# Altium footprint library KF接线端子.PcbLib: 153 footprints (part 9 of 10)
Each footprint in its own frame and in the unit in brackets; x right, y up, seen from the top. Pads: shape width x height; smd on the part's side, far side on the other; paste and mask are expansions set on the pad; w line width, h text height; cw(c..) or ccw(c..) is an arc to the next point about the centre after c.
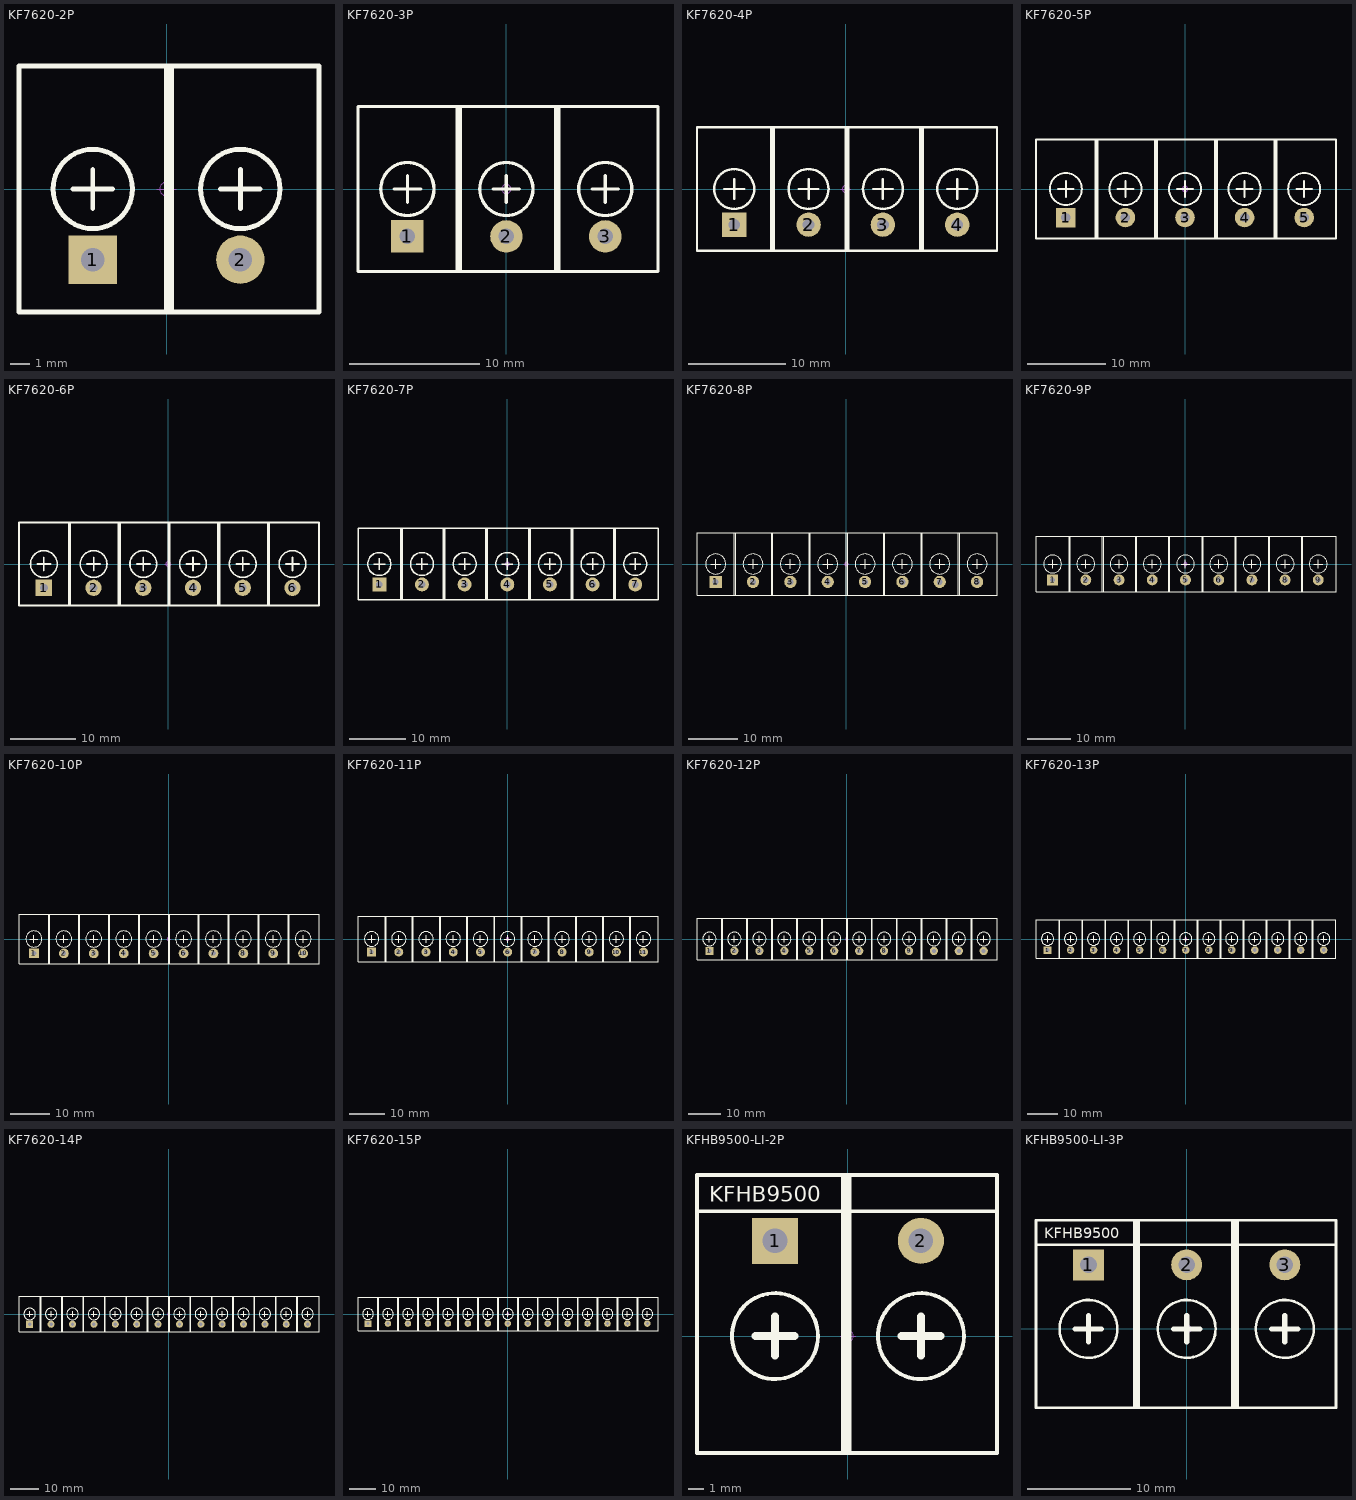
[diagram p8: the footprints below, top view; thin cyan lines are the x and y axes]

## KF7620-2P [mm] "15.2*12*12mm(长宽高)"
pads (2):
  rect 2.5x2.5 hole 1.2: 1(-3.81,-3.65)
  round 2.5 hole 1.2: 2(3.81,-3.65)
Top Overlay:
  circle w0.254: c-3.81,0 r2.048
  circle w0.254: c3.81,0 r2.048
  lines w0.254: -4.826,0 -2.794,0 ; -3.81,-1.016 -3.81,1.016 ; 0,-6.35 0,6.35 ; 0.254,6.35 0.254,-6.35 0.508,-6.35 ; 2.794,0 4.826,0 ; 3.81,-1.016 3.81,1.016 ; -7.62,-6.35 7.874,-6.35 7.874,6.35 -7.62,6.35 -7.62,-6.35
Mechanical 15:
  circle w0.05: c0,0 r0.35
  lines w0.05: -0.5,0 0.5,0 ; 0,-0.5 0,0.5
3D body: height 12.45, standoff -3.45, extent 0,-6.2 8.32,6.2
3D body: height 12.45, standoff -3.45, extent -7.62,-6.2 0.7,6.2

## KF7620-3P [mm] "22.8*12*12mm(长宽高)"
pads (3):
  rect 2.5x2.5 hole 1.2: 1(-7.62,-3.65)
  round 2.5 hole 1.2: 2(0,-3.65) 3(7.62,-3.65)
Top Overlay:
  circle w0.254: c7.62,0 r2.048
  circle w0.254: c0,0 r2.048
  circle w0.254: c-7.62,0 r2.048
  lines w0.254: -8.636,0 -6.604,0 ; -7.62,-1.016 -7.62,1.016 ; -3.81,-6.35 -3.81,6.35 ; -3.556,6.35 -3.556,-6.35 -3.302,-6.35 ; -1.016,0 1.016,0 ; 0,-1.016 0,1.016 ; 3.81,-6.35 3.81,6.35 ; 6.604,0 8.636,0 ; 7.62,-1.016 7.62,1.016 ; 4.064,-6.35 11.684,-6.35 11.684,6.35 4.064,6.35 ; 4.064,-6.35 -11.43,-6.35 -11.43,6.35 4.064,6.35 ; 4.064,-6.35 4.064,6.35
Mechanical 15:
  circle w0.05: c0,0 r0.35
  lines w0.05: -0.5,0 0.5,0 ; 0,-0.5 0,0.5
3D body: height 12.45, standoff -3.45, extent 3.81,-6.2 12.13,6.2
3D body: height 12.45, standoff -3.45, extent -11.43,-6.2 -3.11,6.2
3D body: height 12.45, standoff -3.45, extent -3.81,-6.2 4.51,6.2

## KF7620-4P [mm] "30.5*12*12mm(长宽高)"
pads (4):
  rect 2.5x2.5 hole 1.2: 1(-11.43,-3.65)
  round 2.5 hole 1.2: 2(-3.81,-3.65) 3(3.81,-3.65) 4(11.43,-3.65)
Top Overlay:
  circle w0.254: c-3.81,0 r2.048
  circle w0.254: c-11.43,0 r2.048
  circle w0.254: c3.81,0 r2.048
  circle w0.254: c11.43,0 r2.048
  lines w0.254: -12.446,0 -10.414,0 ; -11.43,-1.016 -11.43,1.016 ; -7.62,-6.35 -7.62,6.35 ; -7.366,6.35 -7.366,-6.35 -7.112,-6.35 ; -4.826,0 -2.794,0 ; -3.81,-1.016 -3.81,1.016 ; 2.794,0 4.826,0 ; 3.81,-1.016 3.81,1.016 ; 7.62,-6.35 7.62,6.35 ; 7.874,6.35 7.874,-6.35 8.128,-6.35 ; 10.414,0 12.446,0 ; 11.43,-1.016 11.43,1.016 ; -15.24,-6.35 -15.24,6.35 0.254,6.35 0.254,-6.35 -15.24,-6.35 ; 0,-6.35 15.494,-6.35 15.494,6.35 0,6.35 0,-6.35
Mechanical 15:
  circle w0.05: c0,0 r0.35
  lines w0.05: -0.5,0 0.5,0 ; 0,-0.5 0,0.5
3D body: height 12.45, standoff -3.45, extent -15.24,-6.2 -6.92,6.2
3D body: height 12.45, standoff -3.45, extent -7.62,-6.2 0.7,6.2
3D body: height 12.45, standoff -3.45, extent 7.62,-6.2 15.94,6.2
3D body: height 12.45, standoff -3.45, extent 0,-6.2 8.32,6.2

## KF7620-5P [mm] "38.1*12*12mm(长宽高)"
pads (5):
  rect 2.5x2.5 hole 1.2: 1(-15.24,-3.65)
  round 2.5 hole 1.2: 2(-7.62,-3.65) 3(0,-3.65) 4(7.62,-3.65) 5(15.24,-3.65)
Top Overlay:
  circle w0.254: c0,0 r2.048
  circle w0.254: c-7.62,0 r2.048
  circle w0.254: c-15.24,0 r2.048
  circle w0.254: c15.24,0 r2.048
  circle w0.254: c7.62,0 r2.048
  lines w0.254: -16.256,0 -14.224,0 ; -15.24,-1.016 -15.24,1.016 ; -11.43,-6.35 -11.43,6.35 ; -11.176,6.35 -11.176,-6.35 -10.922,-6.35 ; -8.636,0 -6.604,0 ; -7.62,-1.016 -7.62,1.016 ; -3.81,-6.35 -3.81,6.35 ; -1.016,0 1.016,0 ; 0,-1.016 0,1.016 ; 6.604,0 8.636,0 ; 7.62,-1.016 7.62,1.016 ; 11.43,-6.35 11.43,6.35 ; 11.684,6.35 11.684,-6.35 11.938,-6.35 ; 14.224,0 16.256,0 ; 15.24,-1.016 15.24,1.016 ; -3.556,-6.35 4.064,-6.35 4.064,6.35 -3.556,6.35 ; -3.556,-6.35 -19.05,-6.35 -19.05,6.35 -3.556,6.35 ; -3.556,-6.35 -3.556,6.35 ; 3.81,-6.35 3.81,6.35 19.304,6.35 19.304,-6.35 3.81,-6.35
Mechanical 15:
  circle w0.05: c0,0 r0.35
  lines w0.05: -0.5,0 0.5,0 ; 0,-0.5 0,0.5
3D body: height 12.45, standoff -3.45, extent -3.81,-6.2 4.51,6.2
3D body: height 12.45, standoff -3.45, extent -19.05,-6.2 -10.73,6.2
3D body: height 12.45, standoff -3.45, extent -11.43,-6.2 -3.11,6.2
3D body: height 12.45, standoff -3.45, extent 3.81,-6.2 12.13,6.2
3D body: height 12.45, standoff -3.45, extent 11.43,-6.2 19.75,6.2

## KF7620-6P [mm] "45.7*12*12mm(长宽高)"
pads (6):
  rect 2.5x2.5 hole 1.2: 1(-19.05,-3.65)
  round 2.5 hole 1.2: 2(-11.43,-3.65) 3(-3.81,-3.65) 4(3.81,-3.65) 5(11.43,-3.65) 6(19.05,-3.65)
Top Overlay:
  circle w0.254: c3.81,0 r2.048
  circle w0.254: c-3.81,0 r2.048
  circle w0.254: c-19.05,0 r2.048
  circle w0.254: c-11.43,0 r2.048
  circle w0.254: c19.05,0 r2.048
  circle w0.254: c11.43,0 r2.048
  lines w0.254: -20.066,0 -18.034,0 ; -19.05,-1.016 -19.05,1.016 ; -15.24,-6.35 -15.24,6.35 ; -14.986,6.35 -14.986,-6.35 -14.732,-6.35 ; -12.446,0 -10.414,0 ; -11.43,-1.016 -11.43,1.016 ; -4.826,0 -2.794,0 ; -3.81,-1.016 -3.81,1.016 ; 0,-6.35 0,6.35 ; 0.254,6.35 0.254,-6.35 0.508,-6.35 ; 2.794,0 4.826,0 ; 3.81,-1.016 3.81,1.016 ; 10.414,0 12.446,0 ; 11.43,-1.016 11.43,1.016 ; 15.24,-6.35 15.24,6.35 ; 15.494,6.35 15.494,-6.35 15.748,-6.35 ; 18.034,0 20.066,0 ; 19.05,-1.016 19.05,1.016 ; -22.86,-6.35 -7.366,-6.35 -7.366,6.35 -22.86,6.35 -22.86,-6.35 ; -7.62,-6.35 -7.62,6.35 7.874,6.35 7.874,-6.35 -7.62,-6.35 ; 7.62,-6.35 7.62,6.35 23.114,6.35 23.114,-6.35 7.62,-6.35
Mechanical 15:
  circle w0.05: c0,0 r0.35
  lines w0.05: -0.5,0 0.5,0 ; 0,-0.5 0,0.5
3D body: height 12.45, standoff -3.45, extent -7.62,-6.2 0.7,6.2
3D body: height 12.45, standoff -3.45, extent 0,-6.2 8.32,6.2
3D body: height 12.45, standoff -3.45, extent -15.24,-6.2 -6.92,6.2
3D body: height 12.45, standoff -3.45, extent -22.86,-6.2 -14.54,6.2
3D body: height 12.45, standoff -3.45, extent 7.62,-6.2 15.94,6.2
3D body: height 12.45, standoff -3.45, extent 15.24,-6.2 23.56,6.2

## KF7620-7P [mm] "45.7*12*12mm(长宽高)"
pads (7):
  rect 2.5x2.5 hole 1.2: 1(-22.86,-3.65)
  round 2.5 hole 1.2: 2(-15.24,-3.65) 3(-7.62,-3.65) 4(0,-3.65) 5(7.62,-3.65) 6(15.24,-3.65) 7(22.86,-3.65)
Top Overlay:
  circle w0.254: c7.62,0 r2.048
  circle w0.254: c15.24,0 r2.048
  circle w0.254: c-15.24,0 r2.048
  circle w0.254: c-22.86,0 r2.048
  circle w0.254: c-7.62,0 r2.048
  circle w0.254: c0,0 r2.048
  circle w0.254: c22.86,0 r2.048
  lines w0.254: -23.876,0 -21.844,0 ; -22.86,-1.016 -22.86,1.016 ; -19.05,-6.35 -19.05,6.35 ; -18.796,6.35 -18.796,-6.35 -18.542,-6.35 ; -16.256,0 -14.224,0 ; -15.24,-1.016 -15.24,1.016 ; -8.636,0 -6.604,0 ; -7.62,-1.016 -7.62,1.016 ; -3.81,-6.35 -3.81,6.35 ; -3.556,6.35 -3.556,-6.35 -3.302,-6.35 ; -1.016,0 1.016,0 ; 0,-1.016 0,1.016 ; 6.604,0 8.636,0 ; 7.62,-1.016 7.62,1.016 ; 11.43,-6.35 11.43,6.35 ; 11.684,6.35 11.684,-6.35 11.938,-6.35 ; 14.224,0 16.256,0 ; 15.24,-1.016 15.24,1.016 ; 19.05,-6.35 19.05,6.35 ; 21.844,0 23.876,0 ; 22.86,-1.016 22.86,1.016 ; 19.304,-6.35 3.81,-6.35 3.81,6.35 19.304,6.35 ; 19.304,-6.35 19.304,6.35 ; 19.304,-6.35 19.304,6.35 ; 19.304,-6.35 26.924,-6.35 26.924,6.35 19.304,6.35 ; -26.67,-6.35 -26.67,6.35 -11.176,6.35 -11.176,-6.35 -26.67,-6.35 ; -11.43,-6.35 4.064,-6.35 4.064,6.35 -11.43,6.35 -11.43,-6.35
Mechanical 15:
  circle w0.05: c0,0 r0.35
  lines w0.05: -0.5,0 0.5,0 ; 0,-0.5 0,0.5
3D body: height 12.45, standoff -3.45, extent 11.43,-6.2 19.75,6.2
3D body: height 12.45, standoff -3.45, extent 3.81,-6.2 12.13,6.2
3D body: height 12.45, standoff -3.45, extent -26.67,-6.2 -18.35,6.2
3D body: height 12.45, standoff -3.45, extent -19.05,-6.2 -10.73,6.2
3D body: height 12.45, standoff -3.45, extent -3.81,-6.2 4.51,6.2
3D body: height 12.45, standoff -3.45, extent -11.43,-6.2 -3.11,6.2
3D body: height 12.45, standoff -3.45, extent 19.05,-6.2 27.37,6.2

## KF7620-8P [mm] "61*12*12mm(长宽高)"
pads (8):
  rect 2.5x2.5 hole 1.2: 1(-26.67,-3.65)
  round 2.5 hole 1.2: 2(-19.05,-3.65) 3(-11.43,-3.65) 4(-3.81,-3.65) 5(3.81,-3.65) 6(11.43,-3.65) 7(19.05,-3.65) 8(26.67,-3.65)
Top Overlay:
  circle w0.254: c26.67,0 r2.048
  circle w0.254: c19.05,0 r2.048
  circle w0.254: c3.81,0 r2.048
  circle w0.254: c11.43,0 r2.048
  circle w0.254: c-19.05,0 r2.048
  circle w0.254: c-26.67,0 r2.048
  circle w0.254: c-11.43,0 r2.048
  circle w0.254: c-3.81,0 r2.048
  lines w0.254: -27.686,0 -25.654,0 ; -26.67,-1.016 -26.67,1.016 ; -22.86,-6.35 -22.86,6.35 ; -22.606,6.35 -22.606,-6.35 -22.352,-6.35 ; -20.066,0 -18.034,0 ; -19.05,-1.016 -19.05,1.016 ; -12.446,0 -10.414,0 ; -11.43,-1.016 -11.43,1.016 ; -7.62,-6.35 -7.62,6.35 ; -7.366,6.35 -7.366,-6.35 -7.112,-6.35 ; -4.826,0 -2.794,0 ; -3.81,-1.016 -3.81,1.016 ; 2.794,0 4.826,0 ; 3.81,-1.016 3.81,1.016 ; 7.62,-6.35 7.62,6.35 ; 7.874,6.35 7.874,-6.35 8.128,-6.35 ; 10.414,0 12.446,0 ; 11.43,-1.016 11.43,1.016 ; 18.034,0 20.066,0 ; 19.05,-1.016 19.05,1.016 ; 22.86,-6.35 22.86,6.35 ; 23.114,6.35 23.114,-6.35 23.368,-6.35 ; 25.654,0 27.686,0 ; 26.67,-1.016 26.67,1.016 ; -30.48,-6.35 -30.48,6.35 -14.986,6.35 -14.986,-6.35 -30.48,-6.35 ; -15.24,-6.35 0.254,-6.35 0.254,6.35 -15.24,6.35 -15.24,-6.35 ; 0,-6.35 15.494,-6.35 15.494,6.35 0,6.35 0,-6.35 ; 15.24,-6.35 15.24,6.35 30.734,6.35 30.734,-6.35 15.24,-6.35
Mechanical 15:
  circle w0.05: c0,0 r0.35
  lines w0.05: -0.5,0 0.5,0 ; 0,-0.5 0,0.5
3D body: height 12.45, standoff -3.45, extent 15.24,-6.2 23.56,6.2
3D body: height 12.45, standoff -3.45, extent 22.86,-6.2 31.18,6.2
3D body: height 12.45, standoff -3.45, extent 7.62,-6.2 15.94,6.2
3D body: height 12.45, standoff -3.45, extent 0,-6.2 8.32,6.2
3D body: height 12.45, standoff -3.45, extent -30.48,-6.2 -22.16,6.2
3D body: height 12.45, standoff -3.45, extent -22.86,-6.2 -14.54,6.2
3D body: height 12.45, standoff -3.45, extent -7.62,-6.2 0.7,6.2
3D body: height 12.45, standoff -3.45, extent -15.24,-6.2 -6.92,6.2

## KF7620-9P [mm] "61*12*12mm(长宽高)"
pads (9):
  rect 2.5x2.5 hole 1.2: 1(-30.48,-3.65)
  round 2.5 hole 1.2: 2(-22.86,-3.65) 3(-15.24,-3.65) 4(-7.62,-3.65) 5(0,-3.65) 6(7.62,-3.65) 7(15.24,-3.65) 8(22.86,-3.65) 9(30.46,-3.65)
Top Overlay:
  circle w0.254: c30.46,0 r2.048
  circle w0.254: c22.86,0 r2.048
  circle w0.254: c15.24,0 r2.048
  circle w0.254: c0,0 r2.048
  circle w0.254: c7.62,0 r2.048
  circle w0.254: c-22.86,0 r2.048
  circle w0.254: c-30.48,0 r2.048
  circle w0.254: c-15.24,0 r2.048
  circle w0.254: c-7.62,0 r2.048
  lines w0.254: -31.496,0 -29.464,0 ; -30.48,-1.016 -30.48,1.016 ; -26.67,-6.35 -26.67,6.35 ; -26.416,6.35 -26.416,-6.35 -26.162,-6.35 ; -23.876,0 -21.844,0 ; -22.86,-1.016 -22.86,1.016 ; -16.256,0 -14.224,0 ; -15.24,-1.016 -15.24,1.016 ; -11.43,-6.35 -11.43,6.35 ; -11.176,6.35 -11.176,-6.35 -10.922,-6.35 ; -8.636,0 -6.604,0 ; -7.62,-1.016 -7.62,1.016 ; -1.016,0 1.016,0 ; 0,-1.016 0,1.016 ; 3.81,-6.35 3.81,6.35 ; 4.064,6.35 4.064,-6.35 4.318,-6.35 ; 6.604,0 8.636,0 ; 7.62,-1.016 7.62,1.016 ; 14.224,0 16.256,0 ; 15.24,-1.016 15.24,1.016 ; 19.05,-6.35 19.05,6.35 ; 19.304,6.35 19.304,-6.35 19.558,-6.35 ; 21.844,0 23.876,0 ; 22.86,-1.016 22.86,1.016 ; 26.65,-6.35 26.65,6.35 ; 27.158,-6.35 26.904,-6.35 ; 29.444,0 31.476,0 ; 30.46,-1.016 30.46,1.016 ; 26.904,-6.35 34.524,-6.35 34.524,6.35 26.904,6.35 26.904,-6.35 ; 26.924,-6.35 26.924,6.35 ; 26.924,-6.35 26.924,6.35 ; 26.924,-6.35 11.43,-6.35 11.43,6.35 26.924,6.35 ; 26.924,-6.35 26.924,6.35 ; -34.29,-6.35 -34.29,6.35 -18.796,6.35 -18.796,-6.35 -34.29,-6.35 ; -19.05,-6.35 -3.556,-6.35 -3.556,6.35 -19.05,6.35 -19.05,-6.35 ; -3.81,-6.35 11.684,-6.35 11.684,6.35 -3.81,6.35 -3.81,-6.35
Mechanical 15:
  circle w0.05: c0,0 r0.35
  lines w0.05: -0.5,0 0.5,0 ; 0,-0.5 0,0.5
3D body: height 12.45, standoff -3.45, extent 26.65,-6.2 34.97,6.2
3D body: height 12.45, standoff -3.45, extent 11.43,-6.2 19.75,6.2
3D body: height 12.45, standoff -3.45, extent 19.05,-6.2 27.37,6.2
3D body: height 12.45, standoff -3.45, extent 3.81,-6.2 12.13,6.2
3D body: height 12.45, standoff -3.45, extent -3.81,-6.2 4.51,6.2
3D body: height 12.45, standoff -3.45, extent -34.29,-6.2 -25.97,6.2
3D body: height 12.45, standoff -3.45, extent -26.67,-6.2 -18.35,6.2
3D body: height 12.45, standoff -3.45, extent -11.43,-6.2 -3.11,6.2
3D body: height 12.45, standoff -3.45, extent -19.05,-6.2 -10.73,6.2

## KF7620-10P [mm] "61*12*12mm(长宽高)"
pads (10):
  rect 2.5x2.5 hole 1.2: 1(-34.29,-3.65)
  round 2.5 hole 1.2: 2(-26.67,-3.65) 3(-19.05,-3.65) 4(-11.43,-3.65) 5(-3.81,-3.65) 6(3.81,-3.65) 7(11.43,-3.65) 8(19.05,-3.65) 9(26.65,-3.65) 10(34.25,-3.65)
Top Overlay:
  circle w0.254: c34.25,0 r2.048
  circle w0.254: c-11.43,0 r2.048
  circle w0.254: c-19.05,0 r2.048
  circle w0.254: c-34.29,0 r2.048
  circle w0.254: c-26.67,0 r2.048
  circle w0.254: c3.81,0 r2.048
  circle w0.254: c-3.81,0 r2.048
  circle w0.254: c11.43,0 r2.048
  circle w0.254: c19.05,0 r2.048
  circle w0.254: c26.65,0 r2.048
  lines w0.254: -35.306,0 -33.274,0 ; -34.29,-1.016 -34.29,1.016 ; -30.48,-6.35 -30.48,6.35 ; -30.226,6.35 -30.226,-6.35 -29.972,-6.35 ; -27.686,0 -25.654,0 ; -26.67,-1.016 -26.67,1.016 ; -20.066,0 -18.034,0 ; -19.05,-1.016 -19.05,1.016 ; -15.24,-6.35 -15.24,6.35 ; -14.986,6.35 -14.986,-6.35 -14.732,-6.35 ; -12.446,0 -10.414,0 ; -11.43,-1.016 -11.43,1.016 ; -4.826,0 -2.794,0 ; -3.81,-1.016 -3.81,1.016 ; 0,-6.35 0,6.35 ; 0.254,6.35 0.254,-6.35 0.508,-6.35 ; 2.794,0 4.826,0 ; 3.81,-1.016 3.81,1.016 ; 10.414,0 12.446,0 ; 11.43,-1.016 11.43,1.016 ; 15.24,-6.35 15.24,6.35 ; 15.494,6.35 15.494,-6.35 15.748,-6.35 ; 18.034,0 20.066,0 ; 19.05,-1.016 19.05,1.016 ; 22.84,-6.35 22.84,6.35 ; 23.348,-6.35 23.094,-6.35 ; 25.634,0 27.666,0 ; 26.65,-1.016 26.65,1.016 ; 30.44,-6.35 30.44,6.35 ; 30.948,-6.35 30.694,-6.35 ; 33.234,0 35.266,0 ; 34.25,-1.016 34.25,1.016 ; 23.094,-6.35 23.094,6.35 30.714,6.35 ; 23.094,-6.35 30.714,-6.35 ; 23.114,-6.35 23.114,6.35 ; 23.114,-6.35 7.62,-6.35 7.62,6.35 23.114,6.35 ; 23.114,-6.35 23.114,6.35 ; 23.114,-6.35 23.114,6.35 ; 30.694,-6.35 38.314,-6.35 38.314,6.35 30.694,6.35 30.694,-6.35 ; 30.714,-6.35 30.714,6.35 ; 30.714,-6.35 30.714,6.35 ; 30.714,-6.35 30.714,6.35 ; 30.714,-6.35 30.714,6.35 ; -38.1,-6.35 -22.606,-6.35 -22.606,6.35 -38.1,6.35 -38.1,-6.35 ; -22.86,-6.35 -22.86,6.35 -7.366,6.35 -7.366,-6.35 -22.86,-6.35 ; -7.62,-6.35 -7.62,6.35 7.874,6.35 7.874,-6.35 -7.62,-6.35
Mechanical 15:
  circle w0.05: c0,0 r0.35
  lines w0.05: -0.5,0 0.5,0 ; 0,-0.5 0,0.5
3D body: height 12.45, standoff -3.45, extent 30.44,-6.2 38.76,6.2
3D body: height 12.45, standoff -3.45, extent -22.86,-6.2 -14.54,6.2
3D body: height 12.45, standoff -3.45, extent -15.24,-6.2 -6.92,6.2
3D body: height 12.45, standoff -3.45, extent -30.48,-6.2 -22.16,6.2
3D body: height 12.45, standoff -3.45, extent -38.1,-6.2 -29.78,6.2
3D body: height 12.45, standoff -3.45, extent -7.62,-6.2 0.7,6.2
3D body: height 12.45, standoff -3.45, extent 0,-6.2 8.32,6.2
3D body: height 12.45, standoff -3.45, extent 15.24,-6.2 23.56,6.2
3D body: height 12.45, standoff -3.45, extent 7.62,-6.2 15.94,6.2
3D body: height 12.45, standoff -3.45, extent 22.84,-6.2 31.16,6.2

## KF7620-11P [mm] "61*12*12mm(长宽高)"
pads (11):
  rect 2.5x2.5 hole 1.2: 1(-38.1,-3.65)
  round 2.5 hole 1.2: 2(-30.48,-3.65) 3(-22.86,-3.65) 4(-15.24,-3.65) 5(-7.62,-3.65) 6(0,-3.65) 7(7.62,-3.65) 8(15.24,-3.65) 9(22.84,-3.65) 10(30.44,-3.65) 11(38.04,-3.65)
Top Overlay:
  circle w0.254: c30.44,0 r2.048
  circle w0.254: c-15.24,0 r2.048
  circle w0.254: c-22.86,0 r2.048
  circle w0.254: c-38.1,0 r2.048
  circle w0.254: c-30.48,0 r2.048
  circle w0.254: c0,0 r2.048
  circle w0.254: c-7.62,0 r2.048
  circle w0.254: c7.62,0 r2.048
  circle w0.254: c15.24,0 r2.048
  circle w0.254: c22.84,0 r2.048
  circle w0.254: c38.04,0 r2.048
  lines w0.254: -39.116,0 -37.084,0 ; -38.1,-1.016 -38.1,1.016 ; -34.29,-6.35 -34.29,6.35 ; -34.036,6.35 -34.036,-6.35 -33.782,-6.35 ; -31.496,0 -29.464,0 ; -30.48,-1.016 -30.48,1.016 ; -23.876,0 -21.844,0 ; -22.86,-1.016 -22.86,1.016 ; -19.05,-6.35 -19.05,6.35 ; -18.796,6.35 -18.796,-6.35 -18.542,-6.35 ; -16.256,0 -14.224,0 ; -15.24,-1.016 -15.24,1.016 ; -8.636,0 -6.604,0 ; -7.62,-1.016 -7.62,1.016 ; -3.81,-6.35 -3.81,6.35 ; -3.556,6.35 -3.556,-6.35 -3.302,-6.35 ; -1.016,0 1.016,0 ; 0,-1.016 0,1.016 ; 6.604,0 8.636,0 ; 7.62,-1.016 7.62,1.016 ; 11.43,-6.35 11.43,6.35 ; 11.684,6.35 11.684,-6.35 11.938,-6.35 ; 14.224,0 16.256,0 ; 15.24,-1.016 15.24,1.016 ; 19.03,-6.35 19.03,6.35 ; 19.538,-6.35 19.284,-6.35 ; 21.824,0 23.856,0 ; 22.84,-1.016 22.84,1.016 ; 26.63,-6.35 26.63,6.35 ; 27.138,-6.35 26.884,-6.35 ; 29.424,0 31.456,0 ; 30.44,-1.016 30.44,1.016 ; 34.23,-6.35 34.23,6.35 ; 34.738,-6.35 34.484,-6.35 ; 37.024,0 39.056,0 ; 38.04,-1.016 38.04,1.016 ; 19.284,-6.35 19.284,6.35 26.904,6.35 ; 19.284,-6.35 26.904,-6.35 ; 19.304,-6.35 19.304,6.35 ; 19.304,-6.35 3.81,-6.35 3.81,6.35 19.304,6.35 ; 19.304,-6.35 19.304,6.35 ; 19.304,-6.35 19.304,6.35 ; 26.884,-6.35 34.504,-6.35 ; 26.884,-6.35 26.884,6.35 34.504,6.35 ; 26.904,-6.35 26.904,6.35 ; 26.904,-6.35 26.904,6.35 ; 26.904,-6.35 26.904,6.35 ; 26.904,-6.35 26.904,6.35 ; 34.484,-6.35 34.484,6.35 42.104,6.35 42.104,-6.35 34.484,-6.35 ; 34.504,-6.35 34.504,6.35 ; 34.504,-6.35 34.504,6.35 ; 34.504,-6.35 34.504,6.35 ; 34.504,-6.35 34.504,6.35 ; 34.504,-6.35 34.504,6.35 ; -41.91,-6.35 -26.416,-6.35 -26.416,6.35 -41.91,6.35 -41.91,-6.35 ; -26.67,-6.35 -26.67,6.35 -11.176,6.35 -11.176,-6.35 -26.67,-6.35 ; -11.43,-6.35 -11.43,6.35 4.064,6.35 4.064,-6.35 -11.43,-6.35
Mechanical 15:
  circle w0.05: c-0.03,0 r0.35
  lines w0.05: -0.53,0 0.47,0 ; -0.03,-0.5 -0.03,0.5
3D body: height 12.45, standoff -3.45, extent 26.63,-6.2 34.95,6.2
3D body: height 12.45, standoff -3.45, extent -26.67,-6.2 -18.35,6.2
3D body: height 12.45, standoff -3.45, extent -19.05,-6.2 -10.73,6.2
3D body: height 12.45, standoff -3.45, extent -34.29,-6.2 -25.97,6.2
3D body: height 12.45, standoff -3.45, extent -41.91,-6.2 -33.59,6.2
3D body: height 12.45, standoff -3.45, extent -11.43,-6.2 -3.11,6.2
3D body: height 12.45, standoff -3.45, extent -3.81,-6.2 4.51,6.2
3D body: height 12.45, standoff -3.45, extent 11.43,-6.2 19.75,6.2
3D body: height 12.45, standoff -3.45, extent 3.81,-6.2 12.13,6.2
3D body: height 12.45, standoff -3.45, extent 19.03,-6.2 27.35,6.2
3D body: height 12.45, standoff -3.45, extent 34.23,-6.2 42.55,6.2

## KF7620-12P [mm] "61*12*12mm(长宽高)"
pads (12):
  rect 2.5x2.5 hole 1.2: 1(-41.91,-3.65)
  round 2.5 hole 1.2: 2(-34.29,-3.65) 3(-26.67,-3.65) 4(-19.05,-3.65) 5(-11.43,-3.65) 6(-3.81,-3.65) 7(3.81,-3.65) 8(11.43,-3.65) 9(19.03,-3.65) 10(26.63,-3.65) 11(34.23,-3.65) 12(41.83,-3.65)
Top Overlay:
  circle w0.254: c34.23,0 r2.048
  circle w0.254: c19.03,0 r2.048
  circle w0.254: c11.43,0 r2.048
  circle w0.254: c3.81,0 r2.048
  circle w0.254: c-11.43,0 r2.048
  circle w0.254: c-3.81,0 r2.048
  circle w0.254: c-34.29,0 r2.048
  circle w0.254: c-41.91,0 r2.048
  circle w0.254: c-26.67,0 r2.048
  circle w0.254: c-19.05,0 r2.048
  circle w0.254: c26.63,0 r2.048
  circle w0.254: c41.83,0 r2.048
  lines w0.254: -42.926,0 -40.894,0 ; -41.91,-1.016 -41.91,1.016 ; -38.1,-6.35 -38.1,6.35 ; -37.846,6.35 -37.846,-6.35 -37.592,-6.35 ; -35.306,0 -33.274,0 ; -34.29,-1.016 -34.29,1.016 ; -27.686,0 -25.654,0 ; -26.67,-1.016 -26.67,1.016 ; -22.86,-6.35 -22.86,6.35 ; -22.606,6.35 -22.606,-6.35 -22.352,-6.35 ; -20.066,0 -18.034,0 ; -19.05,-1.016 -19.05,1.016 ; -12.446,0 -10.414,0 ; -11.43,-1.016 -11.43,1.016 ; -7.62,-6.35 -7.62,6.35 ; -7.366,6.35 -7.366,-6.35 -7.112,-6.35 ; -4.826,0 -2.794,0 ; -3.81,-1.016 -3.81,1.016 ; 2.794,0 4.826,0 ; 3.81,-1.016 3.81,1.016 ; 7.62,-6.35 7.62,6.35 ; 7.874,6.35 7.874,-6.35 8.128,-6.35 ; 10.414,0 12.446,0 ; 11.43,-1.016 11.43,1.016 ; 15.22,-6.35 15.22,6.35 ; 15.728,-6.35 15.474,-6.35 ; 18.014,0 20.046,0 ; 19.03,-1.016 19.03,1.016 ; 22.82,-6.35 22.82,6.35 ; 23.328,-6.35 23.074,-6.35 ; 25.614,0 27.646,0 ; 26.63,-1.016 26.63,1.016 ; 30.42,-6.35 30.42,6.35 ; 30.928,-6.35 30.674,-6.35 ; 33.214,0 35.246,0 ; 34.23,-1.016 34.23,1.016 ; 38.02,-6.35 38.02,6.35 ; 38.528,-6.35 38.274,-6.35 ; 40.814,0 42.846,0 ; 41.83,-1.016 41.83,1.016 ; 15.474,-6.35 23.094,-6.35 ; 15.474,-6.35 15.474,6.35 23.094,6.35 ; 15.494,-6.35 15.494,6.35 ; 15.494,-6.35 15.494,6.35 ; 15.494,-6.35 0,-6.35 0,6.35 15.494,6.35 ; 15.494,-6.35 15.494,6.35 ; 23.074,-6.35 23.074,6.35 30.694,6.35 ; 23.074,-6.35 30.694,-6.35 ; 23.094,-6.35 23.094,6.35 ; 23.094,-6.35 23.094,6.35 ; 23.094,-6.35 23.094,6.35 ; 23.094,-6.35 23.094,6.35 ; 30.674,-6.35 38.294,-6.35 ; 30.674,-6.35 30.674,6.35 38.294,6.35 ; 30.694,-6.35 30.694,6.35 ; 30.694,-6.35 30.694,6.35 ; 30.694,-6.35 30.694,6.35 ; 30.694,-6.35 30.694,6.35 ; 30.694,-6.35 30.694,6.35 ; 38.274,-6.35 38.274,6.35 45.894,6.35 45.894,-6.35 38.274,-6.35 ; 38.294,-6.35 38.294,6.35 ; 38.294,-6.35 38.294,6.35 ; 38.294,-6.35 38.294,6.35 ; 38.294,-6.35 38.294,6.35 ; 38.294,-6.35 38.294,6.35 ; 38.294,-6.35 38.294,6.35 ; -45.72,-6.35 -45.72,6.35 -30.226,6.35 -30.226,-6.35 -45.72,-6.35 ; -30.48,-6.35 -14.986,-6.35 -14.986,6.35 -30.48,6.35 -30.48,-6.35 ; -15.24,-6.35 0.254,-6.35 0.254,6.35 -15.24,6.35 -15.24,-6.35
Mechanical 15:
  circle w0.05: c0,0 r0.35
  lines w0.05: -0.5,0 0.5,0 ; 0,-0.5 0,0.5
3D body: height 12.45, standoff -3.45, extent 30.42,-6.2 38.74,6.2
3D body: height 12.45, standoff -3.45, extent 15.22,-6.2 23.54,6.2
3D body: height 12.45, standoff -3.45, extent 0,-6.2 8.32,6.2
3D body: height 12.45, standoff -3.45, extent 7.62,-6.2 15.94,6.2
3D body: height 12.45, standoff -3.45, extent -7.62,-6.2 0.7,6.2
3D body: height 12.45, standoff -3.45, extent -15.24,-6.2 -6.92,6.2
3D body: height 12.45, standoff -3.45, extent -45.72,-6.2 -37.4,6.2
3D body: height 12.45, standoff -3.45, extent -38.1,-6.2 -29.78,6.2
3D body: height 12.45, standoff -3.45, extent -22.86,-6.2 -14.54,6.2
3D body: height 12.45, standoff -3.45, extent -30.48,-6.2 -22.16,6.2
3D body: height 12.45, standoff -3.45, extent 22.82,-6.2 31.14,6.2
3D body: height 12.45, standoff -3.45, extent 38.02,-6.2 46.34,6.2

## KF7620-13P [mm] "61*12*12mm(长宽高)"
pads (13):
  rect 2.5x2.5 hole 1.2: 1(-45.74,-3.65)
  round 2.5 hole 1.2: 2(-38.12,-3.65) 3(-30.5,-3.65) 4(-22.88,-3.65) 5(-15.26,-3.65) 6(-7.64,-3.65) 7(-0.02,-3.65) 8(7.6,-3.65) 9(15.2,-3.65) 10(22.8,-3.65) 11(30.4,-3.65) 12(38,-3.65) 13(45.6,-3.65)
Top Overlay:
  circle w0.254: c-22.88,0 r2.048
  circle w0.254: c-30.5,0 r2.048
  circle w0.254: c-45.74,0 r2.048
  circle w0.254: c-38.12,0 r2.048
  circle w0.254: c-7.64,0 r2.048
  circle w0.254: c-15.26,0 r2.048
  circle w0.254: c-0.02,0 r2.048
  circle w0.254: c7.6,0 r2.048
  circle w0.254: c15.2,0 r2.048
  circle w0.254: c22.8,0 r2.048
  circle w0.254: c30.4,0 r2.048
  circle w0.254: c38,0 r2.048
  circle w0.254: c45.6,0 r2.048
  lines w0.254: -46.756,0 -44.724,0 ; -45.74,-1.016 -45.74,1.016 ; -41.93,-6.35 -41.93,6.35 ; -41.676,6.35 -41.676,-6.35 -41.422,-6.35 ; -39.136,0 -37.104,0 ; -38.12,-1.016 -38.12,1.016 ; -31.516,0 -29.484,0 ; -30.5,-1.016 -30.5,1.016 ; -26.69,-6.35 -26.69,6.35 ; -26.436,6.35 -26.436,-6.35 -26.182,-6.35 ; -23.896,0 -21.864,0 ; -22.88,-1.016 -22.88,1.016 ; -16.276,0 -14.244,0 ; -15.26,-1.016 -15.26,1.016 ; -11.45,-6.35 -11.45,6.35 ; -11.196,6.35 -11.196,-6.35 -10.942,-6.35 ; -8.656,0 -6.624,0 ; -7.64,-1.016 -7.64,1.016 ; -1.036,0 0.996,0 ; -0.02,-1.016 -0.02,1.016 ; 3.79,-6.35 3.79,6.35 ; 4.044,6.35 4.044,-6.35 4.298,-6.35 ; 6.584,0 8.616,0 ; 7.6,-1.016 7.6,1.016 ; 11.39,-6.35 11.39,6.35 ; 11.898,-6.35 11.644,-6.35 ; 14.184,0 16.216,0 ; 15.2,-1.016 15.2,1.016 ; 18.99,-6.35 18.99,6.35 ; 19.498,-6.35 19.244,-6.35 ; 21.784,0 23.816,0 ; 22.8,-1.016 22.8,1.016 ; 26.59,-6.35 26.59,6.35 ; 27.098,-6.35 26.844,-6.35 ; 29.384,0 31.416,0 ; 30.4,-1.016 30.4,1.016 ; 34.19,-6.35 34.19,6.35 ; 34.698,-6.35 34.444,-6.35 ; 36.984,0 39.016,0 ; 38,-1.016 38,1.016 ; 41.79,-6.35 41.79,6.35 ; 42.298,-6.35 42.044,-6.35 ; 44.584,0 46.616,0 ; 45.6,-1.016 45.6,1.016 ; 11.644,-6.35 11.644,6.35 19.264,6.35 ; 11.644,-6.35 19.264,-6.35 ; 19.244,-6.35 26.864,-6.35 ; 19.244,-6.35 19.244,6.35 26.864,6.35 ; 19.264,-6.35 19.264,6.35 ; 19.264,-6.35 19.264,6.35 ; 26.844,-6.35 34.464,-6.35 ; 26.844,-6.35 26.844,6.35 34.464,6.35 ; 26.864,-6.35 26.864,6.35 ; 26.864,-6.35 26.864,6.35 ; 34.444,-6.35 42.064,-6.35 ; 34.444,-6.35 34.444,6.35 42.064,6.35 ; 34.464,-6.35 34.464,6.35 ; 34.464,-6.35 34.464,6.35 ; 42.044,-6.35 49.664,-6.35 49.664,6.35 42.044,6.35 42.044,-6.35 ; 42.064,-6.35 42.064,6.35 ; 42.064,-6.35 42.064,6.35 ; -49.55,-6.35 -34.056,-6.35 -34.056,6.35 -49.55,6.35 -49.55,-6.35 ; -34.31,-6.35 -34.31,6.35 -18.816,6.35 -18.816,-6.35 -34.31,-6.35 ; -19.07,-6.35 -19.07,6.35 -3.576,6.35 -3.576,-6.35 -19.07,-6.35 ; -3.83,-6.35 11.664,-6.35 11.664,6.35 -3.83,6.35 -3.83,-6.35
Mechanical 15:
  circle w0.05: c-0.07,0 r0.35
  lines w0.05: -0.57,0 0.43,0 ; -0.07,-0.5 -0.07,0.5
3D body: height 12.45, standoff -3.45, extent -34.31,-6.2 -25.99,6.2
3D body: height 12.45, standoff -3.45, extent -26.69,-6.2 -18.37,6.2
3D body: height 12.45, standoff -3.45, extent -41.93,-6.2 -33.61,6.2
3D body: height 12.45, standoff -3.45, extent -49.55,-6.2 -41.23,6.2
3D body: height 12.45, standoff -3.45, extent -19.07,-6.2 -10.75,6.2
3D body: height 12.45, standoff -3.45, extent -11.45,-6.2 -3.13,6.2
3D body: height 12.45, standoff -3.45, extent 3.79,-6.2 12.11,6.2
3D body: height 12.45, standoff -3.45, extent -3.83,-6.2 4.49,6.2
3D body: height 12.45, standoff -3.45, extent 11.39,-6.2 19.71,6.2
3D body: height 12.45, standoff -3.45, extent 18.99,-6.2 27.31,6.2
3D body: height 12.45, standoff -3.45, extent 26.59,-6.2 34.91,6.2
3D body: height 12.45, standoff -3.45, extent 34.19,-6.2 42.51,6.2
3D body: height 12.45, standoff -3.45, extent 41.79,-6.2 50.11,6.2

## KF7620-14P [mm] "61*12*12mm(长宽高)"
pads (14):
  rect 2.5x2.5 hole 1.2: 1(-49.54,-3.65)
  round 2.5 hole 1.2: 2(-41.92,-3.65) 3(-34.3,-3.65) 4(-26.68,-3.65) 5(-19.06,-3.65) 6(-11.44,-3.65) 7(-3.82,-3.65) 8(3.8,-3.65) 9(11.4,-3.65) 10(19,-3.65) 11(26.6,-3.65) 12(34.2,-3.65) 13(41.8,-3.65) 14(49.4,-3.65)
Top Overlay:
  circle w0.254: c49.4,0 r2.048
  circle w0.254: c-26.68,0 r2.048
  circle w0.254: c-34.3,0 r2.048
  circle w0.254: c-49.54,0 r2.048
  circle w0.254: c-41.92,0 r2.048
  circle w0.254: c-11.44,0 r2.048
  circle w0.254: c-19.06,0 r2.048
  circle w0.254: c-3.82,0 r2.048
  circle w0.254: c3.8,0 r2.048
  circle w0.254: c11.4,0 r2.048
  circle w0.254: c19,0 r2.048
  circle w0.254: c26.6,0 r2.048
  circle w0.254: c34.2,0 r2.048
  circle w0.254: c41.8,0 r2.048
  lines w0.254: -50.556,0 -48.524,0 ; -49.54,-1.016 -49.54,1.016 ; -45.73,-6.35 -45.73,6.35 ; -45.476,6.35 -45.476,-6.35 -45.222,-6.35 ; -42.936,0 -40.904,0 ; -41.92,-1.016 -41.92,1.016 ; -35.316,0 -33.284,0 ; -34.3,-1.016 -34.3,1.016 ; -30.49,-6.35 -30.49,6.35 ; -30.236,6.35 -30.236,-6.35 -29.982,-6.35 ; -27.696,0 -25.664,0 ; -26.68,-1.016 -26.68,1.016 ; -20.076,0 -18.044,0 ; -19.06,-1.016 -19.06,1.016 ; -15.25,-6.35 -15.25,6.35 ; -14.996,6.35 -14.996,-6.35 -14.742,-6.35 ; -12.456,0 -10.424,0 ; -11.44,-1.016 -11.44,1.016 ; -4.836,0 -2.804,0 ; -3.82,-1.016 -3.82,1.016 ; -0.01,-6.35 -0.01,6.35 ; 0.244,6.35 0.244,-6.35 0.498,-6.35 ; 2.784,0 4.816,0 ; 3.8,-1.016 3.8,1.016 ; 7.59,-6.35 7.59,6.35 ; 8.098,-6.35 7.844,-6.35 ; 10.384,0 12.416,0 ; 11.4,-1.016 11.4,1.016 ; 15.19,-6.35 15.19,6.35 ; 15.698,-6.35 15.444,-6.35 ; 17.984,0 20.016,0 ; 19,-1.016 19,1.016 ; 22.79,-6.35 22.79,6.35 ; 23.298,-6.35 23.044,-6.35 ; 25.584,0 27.616,0 ; 26.6,-1.016 26.6,1.016 ; 30.39,-6.35 30.39,6.35 ; 30.898,-6.35 30.644,-6.35 ; 33.184,0 35.216,0 ; 34.2,-1.016 34.2,1.016 ; 37.99,-6.35 37.99,6.35 ; 38.498,-6.35 38.244,-6.35 ; 40.784,0 42.816,0 ; 41.8,-1.016 41.8,1.016 ; 45.59,-6.35 45.59,6.35 ; 46.098,-6.35 45.844,-6.35 ; 48.384,0 50.416,0 ; 49.4,-1.016 49.4,1.016 ; 7.844,-6.35 7.844,6.35 15.464,6.35 ; 7.844,-6.35 15.464,-6.35 ; 15.444,-6.35 23.064,-6.35 ; 15.444,-6.35 15.444,6.35 23.064,6.35 ; 15.464,-6.35 15.464,6.35 ; 15.464,-6.35 15.464,6.35 ; 23.044,-6.35 30.664,-6.35 ; 23.044,-6.35 23.044,6.35 30.664,6.35 ; 23.064,-6.35 23.064,6.35 ; 23.064,-6.35 23.064,6.35 ; 30.644,-6.35 38.264,-6.35 ; 30.644,-6.35 30.644,6.35 38.264,6.35 ; 30.664,-6.35 30.664,6.35 ; 30.664,-6.35 30.664,6.35 ; 38.244,-6.35 45.864,-6.35 ; 38.244,-6.35 38.244,6.35 45.864,6.35 ; 38.264,-6.35 38.264,6.35 ; 38.264,-6.35 38.264,6.35 ; 45.844,-6.35 45.844,6.35 53.464,6.35 53.464,-6.35 45.844,-6.35 ; 45.864,-6.35 45.864,6.35 ; 45.864,-6.35 45.864,6.35 ; 45.864,-6.35 45.864,6.35 ; -53.35,-6.35 -37.856,-6.35 -37.856,6.35 -53.35,6.35 -53.35,-6.35 ; -38.11,-6.35 -38.11,6.35 -22.616,6.35 -22.616,-6.35 -38.11,-6.35 ; -22.87,-6.35 -22.87,6.35 -7.376,6.35 -7.376,-6.35 -22.87,-6.35 ; -7.63,-6.35 7.864,-6.35 7.864,6.35 -7.63,6.35 -7.63,-6.35
Mechanical 15:
  circle w0.05: c-0.07,0 r0.35
  lines w0.05: -0.57,0 0.43,0 ; -0.07,-0.5 -0.07,0.5
3D body: height 12.45, standoff -3.45, extent 45.59,-6.2 53.91,6.2
3D body: height 12.45, standoff -3.45, extent -38.11,-6.2 -29.79,6.2
3D body: height 12.45, standoff -3.45, extent -30.49,-6.2 -22.17,6.2
3D body: height 12.45, standoff -3.45, extent -45.73,-6.2 -37.41,6.2
3D body: height 12.45, standoff -3.45, extent -53.35,-6.2 -45.03,6.2
3D body: height 12.45, standoff -3.45, extent -22.87,-6.2 -14.55,6.2
3D body: height 12.45, standoff -3.45, extent -15.25,-6.2 -6.93,6.2
3D body: height 12.45, standoff -3.45, extent -0.01,-6.2 8.31,6.2
3D body: height 12.45, standoff -3.45, extent -7.63,-6.2 0.69,6.2
3D body: height 12.45, standoff -3.45, extent 7.59,-6.2 15.91,6.2
3D body: height 12.45, standoff -3.45, extent 15.19,-6.2 23.51,6.2
3D body: height 12.45, standoff -3.45, extent 22.79,-6.2 31.11,6.2
3D body: height 12.45, standoff -3.45, extent 30.39,-6.2 38.71,6.2
3D body: height 12.45, standoff -3.45, extent 37.99,-6.2 46.31,6.2

## KF7620-15P [mm] "61*12*12mm(长宽高)"
pads (15):
  rect 2.5x2.5 hole 1.2: 1(-53.34,-3.65)
  round 2.5 hole 1.2: 2(-45.72,-3.65) 3(-38.1,-3.65) 4(-30.48,-3.65) 5(-22.86,-3.65) 6(-15.24,-3.65) 7(-7.62,-3.65) 8(0,-3.65) 9(7.6,-3.65) 10(15.2,-3.65) 11(22.8,-3.65) 12(30.4,-3.65) 13(38,-3.65) 14(45.6,-3.65) 15(53.2,-3.65)
Top Overlay:
  circle w0.254: c53.2,0 r2.048
  circle w0.254: c45.6,0 r2.048
  circle w0.254: c-30.48,0 r2.048
  circle w0.254: c-38.1,0 r2.048
  circle w0.254: c-53.34,0 r2.048
  circle w0.254: c-45.72,0 r2.048
  circle w0.254: c-15.24,0 r2.048
  circle w0.254: c-22.86,0 r2.048
  circle w0.254: c-7.62,0 r2.048
  circle w0.254: c0,0 r2.048
  circle w0.254: c7.6,0 r2.048
  circle w0.254: c15.2,0 r2.048
  circle w0.254: c22.8,0 r2.048
  circle w0.254: c30.4,0 r2.048
  circle w0.254: c38,0 r2.048
  lines w0.254: -54.356,0 -52.324,0 ; -53.34,-1.016 -53.34,1.016 ; -49.53,-6.35 -49.53,6.35 ; -49.276,6.35 -49.276,-6.35 -49.022,-6.35 ; -46.736,0 -44.704,0 ; -45.72,-1.016 -45.72,1.016 ; -39.116,0 -37.084,0 ; -38.1,-1.016 -38.1,1.016 ; -34.29,-6.35 -34.29,6.35 ; -34.036,6.35 -34.036,-6.35 -33.782,-6.35 ; -31.496,0 -29.464,0 ; -30.48,-1.016 -30.48,1.016 ; -23.876,0 -21.844,0 ; -22.86,-1.016 -22.86,1.016 ; -19.05,-6.35 -19.05,6.35 ; -18.796,6.35 -18.796,-6.35 -18.542,-6.35 ; -16.256,0 -14.224,0 ; -15.24,-1.016 -15.24,1.016 ; -8.636,0 -6.604,0 ; -7.62,-1.016 -7.62,1.016 ; -3.81,-6.35 -3.81,6.35 ; -3.556,6.35 -3.556,-6.35 -3.302,-6.35 ; -1.016,0 1.016,0 ; 0,-1.016 0,1.016 ; 3.79,-6.35 3.79,6.35 ; 4.298,-6.35 4.044,-6.35 ; 6.584,0 8.616,0 ; 7.6,-1.016 7.6,1.016 ; 11.39,-6.35 11.39,6.35 ; 11.898,-6.35 11.644,-6.35 ; 14.184,0 16.216,0 ; 15.2,-1.016 15.2,1.016 ; 18.99,-6.35 18.99,6.35 ; 19.498,-6.35 19.244,-6.35 ; 21.784,0 23.816,0 ; 22.8,-1.016 22.8,1.016 ; 26.59,-6.35 26.59,6.35 ; 27.098,-6.35 26.844,-6.35 ; 29.384,0 31.416,0 ; 30.4,-1.016 30.4,1.016 ; 34.19,-6.35 34.19,6.35 ; 34.698,-6.35 34.444,-6.35 ; 36.984,0 39.016,0 ; 38,-1.016 38,1.016 ; 41.79,-6.35 41.79,6.35 ; 42.298,-6.35 42.044,-6.35 ; 44.584,0 46.616,0 ; 45.6,-1.016 45.6,1.016 ; 49.39,-6.35 49.39,6.35 ; 49.898,-6.35 49.644,-6.35 ; 52.184,0 54.216,0 ; 53.2,-1.016 53.2,1.016 ; 4.044,-6.35 4.044,6.35 11.664,6.35 ; 4.044,-6.35 11.664,-6.35 ; 11.644,-6.35 19.264,-6.35 ; 11.644,-6.35 11.644,6.35 19.264,6.35 ; 11.664,-6.35 11.664,6.35 ; 11.664,-6.35 11.664,6.35 ; 19.244,-6.35 26.864,-6.35 ; 19.244,-6.35 19.244,6.35 26.864,6.35 ; 19.264,-6.35 19.264,6.35 ; 19.264,-6.35 19.264,6.35 ; 26.844,-6.35 34.464,-6.35 ; 26.844,-6.35 26.844,6.35 34.464,6.35 ; 26.864,-6.35 26.864,6.35 ; 26.864,-6.35 26.864,6.35 ; 34.444,-6.35 42.064,-6.35 ; 34.444,-6.35 34.444,6.35 42.064,6.35 ; 34.464,-6.35 34.464,6.35 ; 34.464,-6.35 34.464,6.35 ; 42.044,-6.35 42.044,6.35 49.664,6.35 ; 42.044,-6.35 49.664,-6.35 ; 42.064,-6.35 42.064,6.35 ; 42.064,-6.35 42.064,6.35 ; 42.064,-6.35 42.064,6.35 ; 49.644,-6.35 57.264,-6.35 57.264,6.35 49.644,6.35 49.644,-6.35 ; 49.664,-6.35 49.664,6.35 ; 49.664,-6.35 49.664,6.35 ; 49.664,-6.35 49.664,6.35 ; 49.664,-6.35 49.664,6.35 ; -57.15,-6.35 -41.656,-6.35 -41.656,6.35 -57.15,6.35 -57.15,-6.35 ; -41.91,-6.35 -41.91,6.35 -26.416,6.35 -26.416,-6.35 -41.91,-6.35 ; -26.67,-6.35 -26.67,6.35 -11.176,6.35 -11.176,-6.35 -26.67,-6.35 ; -11.43,-6.35 4.064,-6.35 4.064,6.35 -11.43,6.35 -11.43,-6.35
Mechanical 15:
  circle w0.05: c0,0 r0.35
  lines w0.05: -0.5,0 0.5,0 ; 0,-0.5 0,0.5
3D body: height 12.45, standoff -3.45, extent 49.39,-6.2 57.71,6.2
3D body: height 12.45, standoff -3.45, extent 41.79,-6.2 50.11,6.2
3D body: height 12.45, standoff -3.45, extent -41.91,-6.2 -33.59,6.2
3D body: height 12.45, standoff -3.45, extent -34.29,-6.2 -25.97,6.2
3D body: height 12.45, standoff -3.45, extent -49.53,-6.2 -41.21,6.2
3D body: height 12.45, standoff -3.45, extent -57.15,-6.2 -48.83,6.2
3D body: height 12.45, standoff -3.45, extent -26.67,-6.2 -18.35,6.2
3D body: height 12.45, standoff -3.45, extent -19.05,-6.2 -10.73,6.2
3D body: height 12.45, standoff -3.45, extent -3.81,-6.2 4.51,6.2
3D body: height 12.45, standoff -3.45, extent -11.43,-6.2 -3.11,6.2
3D body: height 12.45, standoff -3.45, extent 3.79,-6.2 12.11,6.2
3D body: height 12.45, standoff -3.45, extent 11.39,-6.2 19.71,6.2
3D body: height 12.45, standoff -3.45, extent 18.99,-6.2 27.31,6.2
3D body: height 12.45, standoff -3.45, extent 26.59,-6.2 34.91,6.2
3D body: height 12.45, standoff -3.45, extent 34.19,-6.2 42.51,6.2

## KFHB9500-LI-2P [mm] "长：18mm，宽：19.1mm，高：14"
pads (2):
  rect 3x3 hole 1.6: 1(-4.75,6.2)
  round 3 hole 1.6: 2(4.75,6.2)
Top Overlay:
  circle w0.254: c-4.75,0 r2.8
  circle w0.254: c4.75,0 r2.8
  lines w0.254: -9.83,8.128 0.076,8.128 ; -0.33,8.128 9.576,8.128 ; -0.076,-7.62 -0.076,10.5 ; -9.83,-7.62 -9.83,10.5 0.103,10.5 0.103,-7.62 -9.83,-7.62 ; -0.33,-7.62 -0.33,10.5 9.703,10.5 9.703,-7.62 -0.33,-7.62
  lines w0.508: -6.02,0 -3.48,0 ; -4.75,-1.27 -4.75,1.27 ; 3.48,0 6.02,0 ; 4.75,-1.27 4.75,1.27
  text "KFHB9500" at -9.017,8.763 h1.02
Mechanical 15:
  circle w0.05: c0,0 r0.35
  lines w0.05: -0.5,0 0.5,0 ; 0,-0.5 0,0.5
3D body: height 14.05, standoff -3.25, extent -9.95,-7.5 0.05,10.5
3D body: height 14.05, standoff -3.25, extent -0.45,-7.5 9.55,10.5

## KFHB9500-LI-3P [mm] "长：18mm，宽：28.6mm，高：14"
pads (3):
  rect 3x3 hole 1.6: 1(-9.5,6.2)
  round 3 hole 1.6: 2(0,6.2) 3(9.5,6.2)
Top Overlay:
  circle w0.254: c-9.5,0 r2.8
  circle w0.254: c0,0 r2.8
  circle w0.254: c9.5,0 r2.8
  lines w0.254: -14.58,8.128 -4.674,8.128 ; -5.08,8.128 4.826,8.128 ; -4.826,-7.62 -4.826,10.5 ; 4.42,8.128 14.326,8.128 ; 4.674,-7.62 4.674,10.5 ; 4.853,-7.62 4.853,10.5 ; -14.58,-7.62 -14.58,10.5 -4.647,10.5 -4.647,-7.62 -14.58,-7.62 ; -5.08,-7.62 -5.08,10.5 4.953,10.5 4.953,-7.62 -5.08,-7.62 ; 4.42,-7.62 14.453,-7.62 14.453,10.5 4.42,10.5 4.42,-7.62
  lines w0.508: -10.77,0 -8.23,0 ; -9.5,-1.27 -9.5,1.27 ; -1.27,0 1.27,0 ; 0,-1.27 0,1.27 ; 8.23,0 10.77,0 ; 9.5,-1.27 9.5,1.27
  text "KFHB9500" at -13.767,8.763 h1.02
Mechanical 15:
  circle w0.05: c0.076,0 r0.35
  lines w0.05: -0.424,0 0.576,0 ; 0.076,-0.5 0.076,0.5
3D body: height 14.05, standoff -3.25, extent 4.3,-7.5 14.3,10.5
3D body: height 14.05, standoff -3.25, extent -5.2,-7.5 4.8,10.5
3D body: height 14.05, standoff -3.25, extent -14.7,-7.5 -4.7,10.5